# Altium schematic symbol library SCH - OPAMP - TI TL974QPWRQ1.Schlib: 1 symbol
Pins are listed as number, name and electrical type; pins without a type are passive.

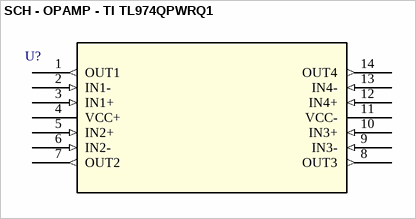
[diagram p0: symbol SCH - OPAMP - TI TL974QPWRQ1]

## SCH - OPAMP - TI TL974QPWRQ1
designator U?
footprint PW14
pins: 1 OUT1 (out), 2 IN1- (in), 3 IN1+ (in), 4 VCC+ (power), 5 IN2+ (in), 6 IN2- (in), 7 OUT2 (out), 8 OUT3 (out), 9 IN3- (in), 10 IN3+ (in), 11 VCC- (power), 12 IN4+ (in), 13 IN4- (in), 14 OUT4 (out)